# EAGLE library part WE-STST_4532 (library WE-STST)
WE-STST Super Tiny Signal Transformer Characteristics Super small size 1.5 kV isolation voltage 350 µH OCL as per IEEE 802.3 Operating temperature: -40 °C up to +105 °C Applications Ethernet 10/100/1000 Base-T Ethernet 2.5/5G and 10G Base-T Single Pair Ethernet Ultrasonic sensors g.fast <https://www.we-online.com/components/media/o156816v209%20Family_WE-STST.jpg> Details see: www.we-online.com/en/components/products/WE-STST <www.we-online.com/catalog/WE-STST/?utm_source=eagle_model&utm_medium=description_link&utm_campaign=eisos_eagle> Updated by Ella Wu 2025-12-05 2023(C) Wurth Elektronik
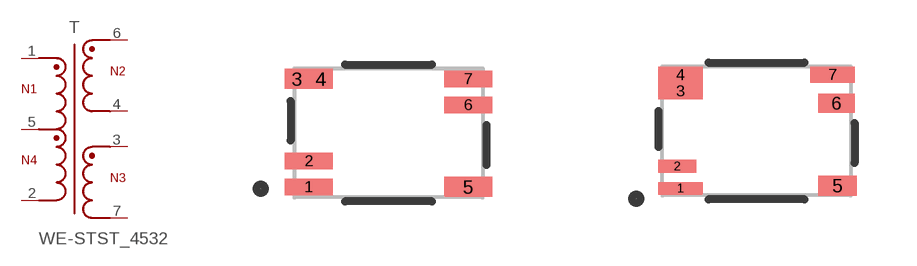
[diagram p0: symbol with the pads of WE-STST_74930000; footprints WE-STST_74930000, WE-STST_749302010]

Designator prefix T

## WE-STST_4532_74930000 (APPLICATION: Ethernet, Single Pair Ethernet; DATA-RATE: 10/100/1000 Base-T, 10/100 Base-T1; DATASHEET-URL: https://www.we-online.com/redexpert/spec/74930000?ae; HEIGHT: 2.9mm; L: 350uH; LENGTH: 4.7mm; MOUNT: SMT; OPERATING-TEMPERATURE: -40 °C up to +105 °C; PART-NUMBER: 74930000; SIZE: 4532; TURNS-RATIO: 1:1; VALUE: 74930000; VT: 1500VRMS; WIDTH: 3.22mm)  [WE-STST_74930000]
1  1  pas
2  2  pas
3  3  pas
4  4  pas
5  5  pas
6  6  pas
7  7  pas

## WE-STST_4532_749302010 (APPLICATION: Short distance sensing at high frequency; DATASHEET-URL: https://www.we-online.com/redexpert/spec/749302010?ae; HEIGHT: 2.9mm; L: 300uH; LENGTH: 4.7mm; MOUNT: SMT; OPERATING-TEMPERATURE: -40 °C up to +105 °C; PART-NUMBER: 749302010; SIZE: 4532; TURNS-RATIO: 1:4.5:4.5:1; VALUE: 749302010; VT: 400VRMS; WIDTH: 3.22mm)  [WE-STST_749302010]
Pads as for WE-STST_74930000

## WE-STST_4532_749302011 (APPLICATION: Long distance sensing at low frequency; DATASHEET-URL: https://www.we-online.com/redexpert/spec/749302011?ae; HEIGHT: 2.9mm; L: 2000uH; LENGTH: 4.7mm; MOUNT: SMT; OPERATING-TEMPERATURE: -40 °C up to +105 °C; PART-NUMBER: 749302011; SIZE: 4532; TURNS-RATIO: 1:4.5:4.5:1; VALUE: 749302011; VT: 400VRMS; WIDTH: 3.22mm)  [WE-STST_749302011]
Pads as for WE-STST_74930000

## WE-STST_4532_74930100 (APPLICATION: Ethernet, Single Pair Ethernet; DATA-RATE: 10G Base-T, 1000 Base-T1; DATASHEET-URL: https://www.we-online.com/redexpert/spec/74930100?ae; HEIGHT: 2.9mm; L: 120uH; LENGTH: 4.7mm; MOUNT: SMT; OPERATING-TEMPERATURE: -40 °C up to +105 °C; PART-NUMBER: 74930100; SIZE: 4532; TURNS-RATIO: 1:1; VALUE: 74930100; VT: 1500VRMS; WIDTH: 3.22mm)  [WE-STST_74930100]
Pads as for WE-STST_74930000

## WE-STST_4532_74930000_PODL (APPLICATION: Ethernet, Single Pair Ethernet; DATA-RATE: 10/100/1000 Base-T, 10/100 Base-T1; DATASHEET-URL: https://www.we-online.com/redexpert/spec/74930000?ae; HEIGHT: 2.9mm; L: 350uH; LENGTH: 4.7mm; MOUNT: SMT; OPERATING-TEMPERATURE: -40 °C up to +105 °C; PART-NUMBER: 74930000; SIZE: 4532; TURNS-RATIO: 1:1; VALUE: 74930000; VT: 1500VRMS; WIDTH: 3.22mm)  [WE-STST_74930000_PODL]
Pads as for WE-STST_74930000

## WE-STST_4532_74930100_PODL (APPLICATION: Ethernet, Single Pair Ethernet; DATA-RATE: 10G Base-T, 1000 Base-T1; DATASHEET-URL: https://www.we-online.com/redexpert/spec/74930100?ae; HEIGHT: 2.9mm; L: 120uH; LENGTH: 4.7mm; MOUNT: SMT; OPERATING-TEMPERATURE: -40 °C up to +105 °C; PART-NUMBER: 74930100; SIZE: 4532; TURNS-RATIO: 1:1; VALUE: 74930100; VT: 1500VRMS; WIDTH: 3.22mm)  [WE-STST_74930100_PODL]
Pads as for WE-STST_74930000

## WE-STST_4532_74930030 (APPLICATION: Ethernet, PoE; DATA-RATE: 10/100/1GBase-T; DATASHEET-URL: https://www.we-online.com/redexpert/spec/74930030?ae; HEIGHT: 2.9mm; L: 350uH; LENGTH: 4.7mm; MOUNT: SMT; OPERATING-TEMPERATURE: -40 °C up to +105 °C; PART-NUMBER: 74930030; POE: PoE (up to 350 mA); SIZE: 4532; TURNS-RATIO: 1:1; VALUE: 74930030; VT: 1500VRMS; WIDTH: 3.22mm)  [WE-STST_74930030]
Pads as for WE-STST_74930000

## WE-STST_4532_74930130 (APPLICATION: Ethernet, PoE; DATA-RATE: 10/100/1G/10GBase-T; DATASHEET-URL: https://www.we-online.com/redexpert/spec/74930130?ae; HEIGHT: 2.9mm; L: 110uH; LENGTH: 4.7mm; MOUNT: SMT; OPERATING-TEMPERATURE: -40 °C up to +105 °C; PART-NUMBER: 74930130; POE: PoE (up to 350 mA); SIZE: 4532; TURNS-RATIO: 1:1; VALUE: 74930130; VT: 1500VRMS; WIDTH: 3.22mm)  [WE-STST_74930130]
Pads as for WE-STST_74930000

## WE-STST_4532_74930120 (APPLICATION: Ethernet, PoE+; DATA-RATE: 10/100/1G/10GBase-T; DATASHEET-URL: https://www.we-online.com/redexpert/spec/74930120?ae; HEIGHT: 2.9mm; L: 110uH; LENGTH: 4.7mm; MOUNT: SMT; OPERATING-TEMPERATURE: -40 °C up to +105 °C; PART-NUMBER: 74930120; POE: PoE+ (up to 600 mA); SIZE: 4532; TURNS-RATIO: 1:1; VALUE: 74930120; VT: 1500VRMS; WIDTH: 3.22mm)  [WE-STST_74930120]
Pads as for WE-STST_74930000

## Footprint WE-STST_74930000 (pad centres in mm)
WE-STST Super Tiny Signal Transformer 10/100/1000 Base-T, 10/100 Base-T1 Max Height = 2.9 mm
smd 1.2 x 0.41: 1 -1.99,-1.35; 2 -1.99,-0.7; 6 1.99,0.7; 7 1.99,1.35
smd 0.6 x 0.5: 3 -2.29,1.35; 4 -1.69,1.35
smd 1.2 x 0.5: 5 1.99,-1.35

## Footprint WE-STST_749302010 (pad centres in mm)
WE-STST Super Tiny Signal Transformer 10/100/1000 Base-T Max Height = 2.9 mm
smd 1.1 x 0.32: 1 -1.9,-1.44
smd 0.95 x 0.33: 2 -1.98,-0.88
smd 1.1 x 0.405: 3 -1.9,0.998; 4 -1.9,1.403
smd 0.95 x 0.5: 5 2.025,-1.365
smd 0.9 x 0.47: 6 2,0.69
smd 1.1 x 0.4: 7 1.9,1.41

## Footprint WE-STST_749302011 (pad centres in mm)
WE-STST Super Tiny Signal Transformer Max Height = 2.9 mm
smd 1.1 x 0.32: 1 -1.9,-1.44
smd 0.95 x 0.33: 2 -1.98,-0.88
smd 1.1 x 0.405: 3 -1.9,0.998; 4 -1.9,1.403
smd 0.95 x 0.5: 5 2.025,-1.365
smd 0.9 x 0.47: 6 2,0.69
smd 1.1 x 0.4: 7 1.9,1.41

## Footprint WE-STST_74930100 (pad centres in mm)
WE-STST Super Tiny Signal Transformer 10/100/1000 Base-T, 10/100 Base-T1 Max Height = 2.9 mm
smd 1.2 x 0.41: 1 -1.99,-1.35; 2 -1.99,-0.7; 6 1.99,0.7; 7 1.99,1.35
smd 0.6 x 0.5: 3 -2.29,1.35; 4 -1.69,1.35
smd 1.2 x 0.5: 5 1.99,-1.35

## Footprint WE-STST_74930000_PODL (pad centres in mm)
WE-STST Super Tiny Signal Transformer This package is suggested for Power over Data Lines (PoDL) and 10Base-T1 applications. 10/100/1000 Base-T, 10/100 Base-T1 Max Height = 2.9 mm
smd 1.32 x 0.41: 1 -1.89,-1.35; 2 -1.89,-0.7; 6 1.89,0.7; 7 1.89,1.35
smd 0.5 x 0.5: 3 -2.3,1.35; 4 -1.48,1.35
smd 1.32 x 0.5: 5 1.89,-1.35

## Footprint WE-STST_74930100_PODL (pad centres in mm)
WE-STST Super Tiny Signal Transformer This package is suggested for Power over Data Lines (PoDL) and 10Base-T1 applications. 10G Base-T, 1000 Base-T1 Max Height = 2.9 mm
smd 1.32 x 0.41: 1 -1.89,-1.35; 2 -1.89,-0.7; 6 1.89,0.7; 7 1.89,1.35
smd 0.5 x 0.5: 3 -2.3,1.35; 4 -1.48,1.35
smd 1.32 x 0.5: 5 1.89,-1.35

## Footprint WE-STST_74930030 (pad centres in mm)
WE-STST Super Tiny Signal Transformer 10/100/1GBase-T Max Height = 2.9 mm
smd 1.2 x 0.41: 1 -1.99,-1.35; 2 -1.99,-0.7; 6 1.99,0.7; 7 1.99,1.35
smd 0.6 x 0.5: 3 -2.29,1.35; 4 -1.69,1.35
smd 1.2 x 0.5: 5 1.99,-1.35

## Footprint WE-STST_74930130 (pad centres in mm)
WE-STST Super Tiny Signal Transformer 10/100/1G/10GBase-T Max Height = 2.9 mm
smd 1.2 x 0.41: 1 -1.99,-1.35; 2 -1.99,-0.7; 6 1.99,0.7; 7 1.99,1.35
smd 0.6 x 0.5: 3 -2.29,1.35; 4 -1.69,1.35
smd 1.2 x 0.5: 5 1.99,-1.35

## Footprint WE-STST_74930120 (pad centres in mm)
WE-STST Super Tiny Signal Transformer 10/100/1G/10GBase-T Max Height = 2.9 mm
smd 1.2 x 0.41: 1 -1.99,-1.35; 2 -1.99,-0.7; 6 1.99,0.7; 7 1.99,1.35
smd 0.6 x 0.5: 3 -2.29,1.35; 4 -1.69,1.35
smd 1.2 x 0.5: 5 1.99,-1.35